# Altium footprint library SamacSys.PcbLib: 19 footprints (part 2 of 2)
Each footprint in its own frame and in the unit in brackets; x right, y up, seen from the top. Pads: shape width x height; smd on the part's side, far side on the other; paste and mask are expansions set on the pad; w line width, h text height; cw(c..) or ccw(c..) is an arc to the next point about the centre after c.
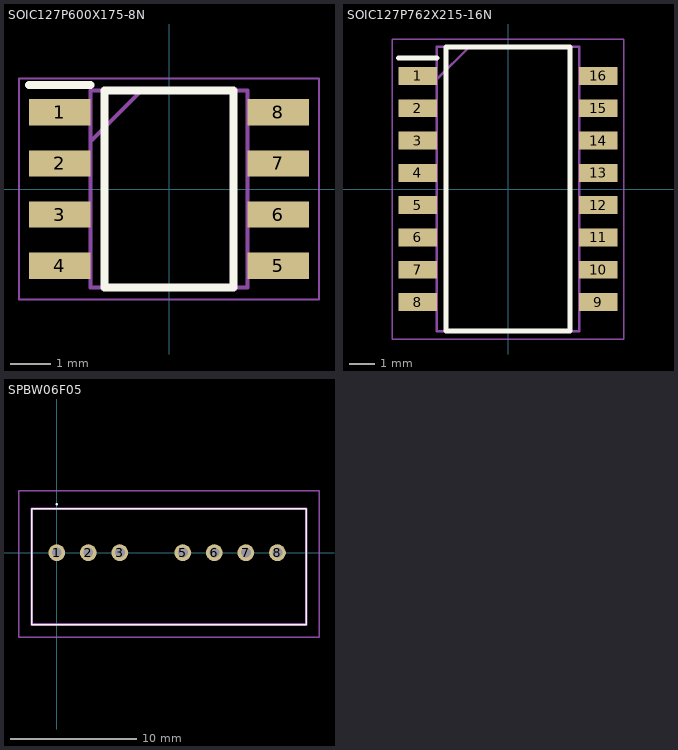
[diagram p1: the footprints below, top view; thin cyan lines are the x and y axes]

## SOIC127P600X175-8N [mm]
pads (8):
  rect 1.525x0.65 smd: 1(-2.712,1.905) 2(-2.712,0.635) 3(-2.712,-0.635) 4(-2.712,-1.905) 5(2.712,-1.905) 6(2.712,-0.635) 7(2.712,0.635) 8(2.712,1.905)
Top Overlay:
  lines w0.2: -3.475,2.58 -1.95,2.58 ; -1.6,-2.45 -1.6,2.45 1.6,2.45 1.6,-2.45 -1.6,-2.45
Mechanical 13:
  lines w0.1: -1.95,1.18 -0.68,2.45 ; -1.95,-2.45 -1.95,2.45 1.95,2.45 1.95,-2.45 -1.95,-2.45
Mechanical 15:
  lines w0.05: -3.725,-2.75 -3.725,2.75 3.725,2.75 3.725,-2.75 -3.725,-2.75
3D body "NE555DR.stp": height 1.75, standoff 0, extent -3,-2.45 3,2.45

## SOIC127P762X215-16N [mm]
pads (16):
  rect 1.505x0.7 smd: 1(-3.548,4.445) 2(-3.548,3.175) 3(-3.548,1.905) 4(-3.548,0.635) 5(-3.548,-0.635) 6(-3.548,-1.905) 7(-3.548,-3.175) 8(-3.548,-4.445) 9(3.548,-4.445) 10(3.548,-3.175) 11(3.548,-1.905) 12(3.548,-0.635) 13(3.548,0.635) 14(3.548,1.905) 15(3.548,3.175) 16(3.548,4.445)
Top Overlay:
  lines w0.2: -4.3,5.145 -2.795,5.145 ; -2.445,-5.59 -2.445,5.59 2.445,5.59 2.445,-5.59 -2.445,-5.59
Mechanical 13:
  lines w0.1: -2.795,4.32 -1.525,5.59 ; -2.795,-5.59 -2.795,5.59 2.795,5.59 2.795,-5.59 -2.795,-5.59
Mechanical 15:
  lines w0.05: -4.55,-5.9 -4.55,5.9 4.55,5.9 4.55,-5.9 -4.55,-5.9
3D body "4816P-1-223LF.stp": height 2.15, standoff 0, extent -3.81,-5.59 3.81,5.59

## SPBW06F05 [mm]
pads (7):
  round 1.337 hole 0.78: 1(0,0) 2(2.5,0) 3(5,0) 5(10,0) 6(12.5,0) 7(15,0) 8(17.5,0)
Top Overlay:
  lines w0.1: -2,-5.7 -2,3.5 19.8,3.5 19.8,-5.7 -2,-5.7 ; 0,3.8 ccw(c0,3.85) 0,3.9 ccw(c0,3.85) 0,3.8
Mechanical 13:
  lines w0.2: -2,-5.7 -2,3.5 19.8,3.5 19.8,-5.7 -2,-5.7
Mechanical 15:
  lines w0.1: -3,-6.7 -3,4.9 20.8,4.9 20.8,-6.7 -3,-6.7
3D body "SPBW06F-05.stp": height 11.6, standoff -5, extent -2,-5.7 19.8,3.5